# Altium schematic symbol library CREE-LED.SchLib: 1 symbol
Pins are listed as number, name and electrical type; pins without a type are passive.

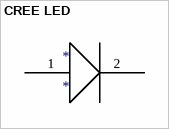
[diagram p0: symbol CREE LED]

## CREE LED
designator *
footprint PCBComponent_1
pins: 1, 2